# Altium schematic symbol library ERJ-3EKF3602V.SchLib: 1 symbol
Pins are listed as number, name and electrical type; pins without a type are passive.

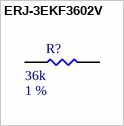
[diagram p0: symbol ERJ-3EKF3602V]

## ERJ-3EKF3602V
designator R?  Tolerance: 1 %  Resistance: 36k  (hidden comment: ERJ-3EKF3602V)
RES SMD 36K OHM 1% 1/10W 0603; MFR: Panasonic; Qualifications: AEC-Q200; ComponentLink1Description: Datasheet; ComponentLink1URL: https://www.mouser.ca/datasheet/2/315/AOA0000C304-1149620.pdf; PN: ERJ-3EKF3602V; Footprint: 0603; Power Rating: 1/10W; Package: 0603; Supplier 1: Newark; Supplier Part Number 1: 27AC5196
footprint RES0603 (Generic 0603)
pins: 1, 2